# Altium schematic symbol library TXU0204QPWRQ1.SchLib: 1 symbol
Pins are listed as number, name and electrical type; pins without a type are passive.

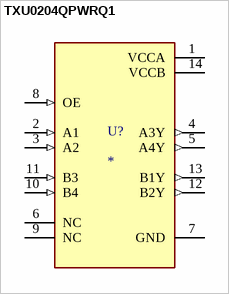
[diagram p0: symbol TXU0204QPWRQ1]

## TXU0204QPWRQ1
designator U?
Automotive four-channel fixed multidirectional level shifter; MP: TXU0204QPWRQ1; MF: Texas Instruments; SnapEDA_Link: https://www.snapeda.com/parts/TXU0204QPWRQ1/Texas+Instruments/view-part/?ref=snap; Availability: In Stock; Package: TSSOP-14 Texas Instruments; Purchase-URL: https://pricing.snapeda.com/search/part/TXU0204QPWRQ1/?ref=eda; Check_prices: https://www.snapeda.com/parts/TXU0204QPWRQ1/Texas+Instruments/view-part/?ref=eda; Value: *; Price: None
footprint IC_TXU0204QPWRQ1
pins: 1 VCCA (power), 2 A1 (in), 3 A2 (in), 4 A3Y (out), 5 A4Y (out), 6 NC, 7 GND (power), 8 OE (in), 9 NC, 10 B4 (in), 11 B3 (in), 12 B2Y (out), 13 B1Y (out), 14 VCCB (power)